# Altium footprint library multimodal.PcbLib: 69 footprints (part 2 of 5)
Each footprint in its own frame and in the unit in brackets; x right, y up, seen from the top. Pads: shape width x height; smd on the part's side, far side on the other; paste and mask are expansions set on the pad; w line width, h text height; cw(c..) or ccw(c..) is an arc to the next point about the centre after c.
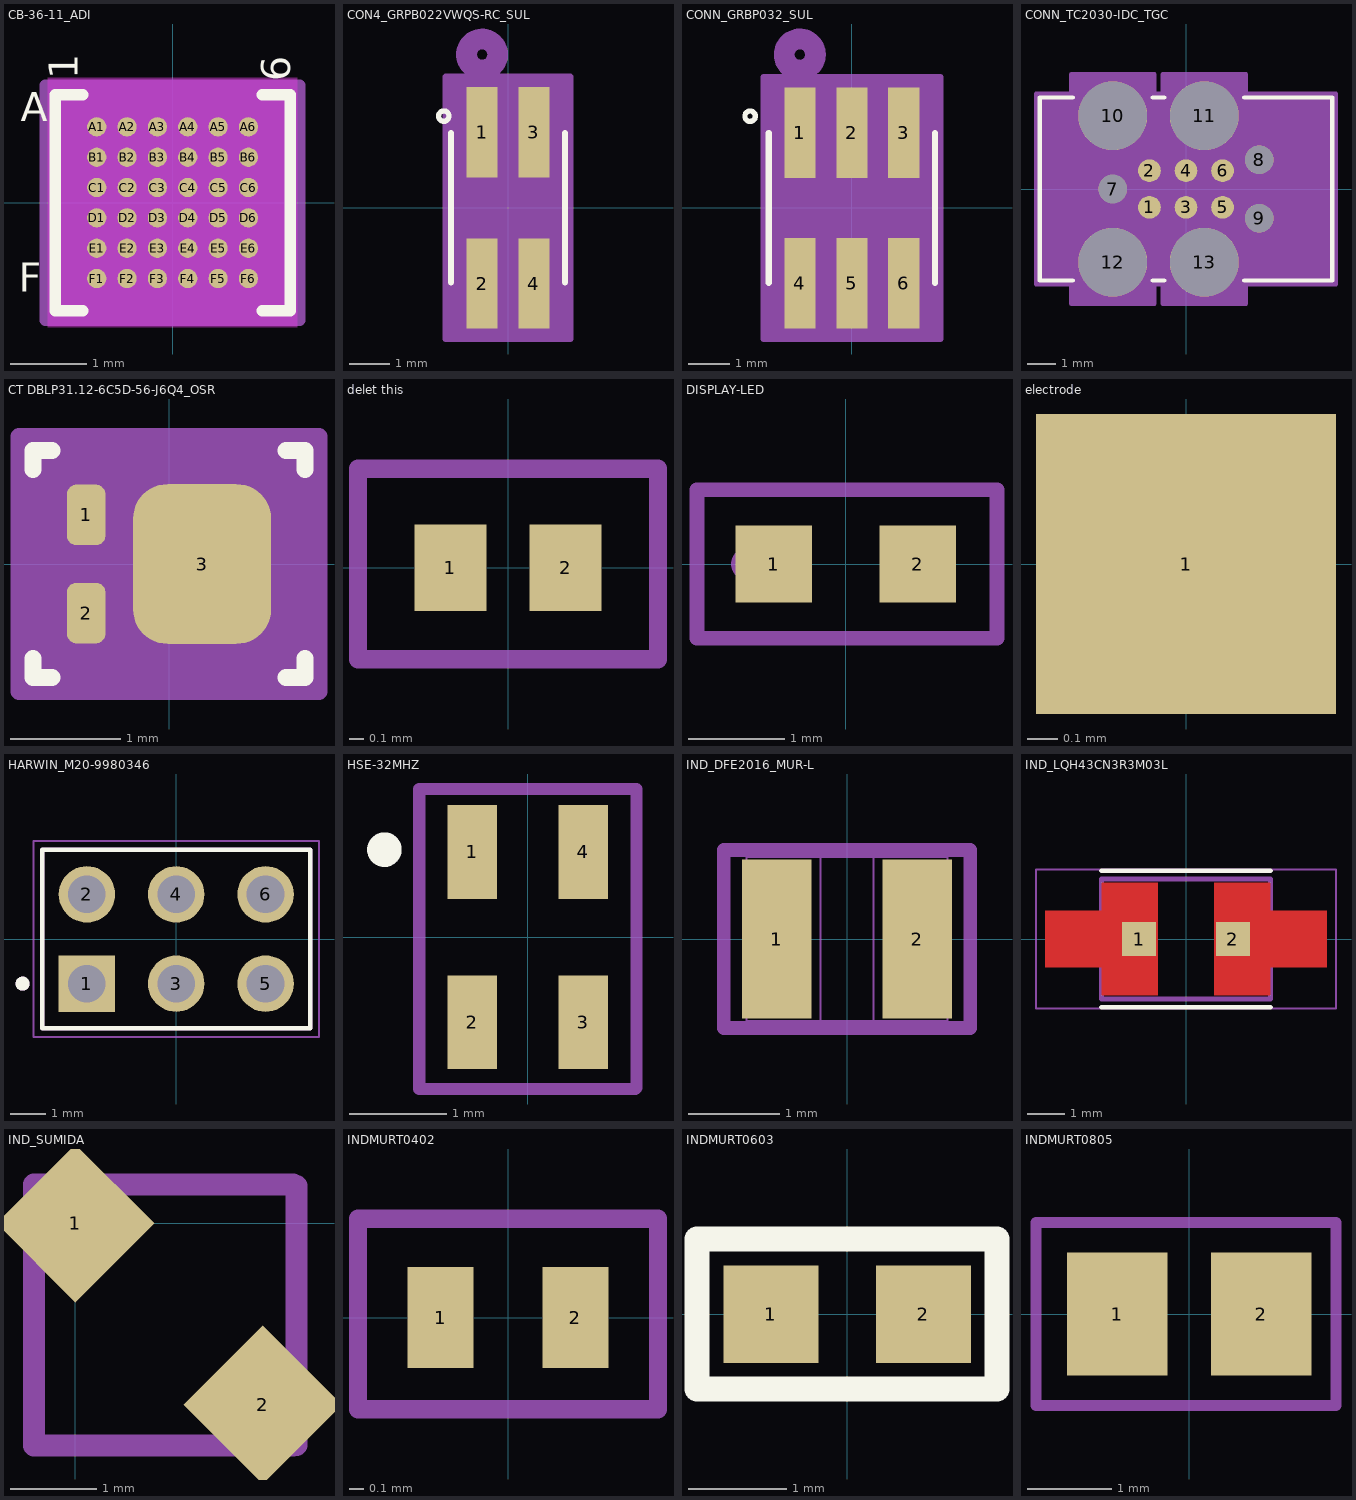
[diagram p1: the footprints below, top view; thin cyan lines are the x and y axes]

## CB-36-11_ADI [mm]
pads (36):
  round 0.254 smd paste+0 mask+0.025: A1(-1,1) A2(-0.6,1) A3(-0.2,1) A4(0.2,1) A5(0.6,1) A6(1,1) B1(-1,0.6) B2(-0.6,0.6) B3(-0.2,0.6) B4(0.2,0.6) B5(0.6,0.6) B6(1,0.6) C1(-1,0.2) C2(-0.6,0.2) C3(-0.2,0.2) C4(0.2,0.2) C5(0.6,0.2) C6(1,0.2) D1(-1,-0.2) D2(-0.6,-0.2) D3(-0.2,-0.2) D4(0.2,-0.2) D5(0.6,-0.2) D6(1,-0.2) E1(-1,-0.6) E2(-0.6,-0.6) E3(-0.2,-0.6) E4(0.2,-0.6) E5(0.6,-0.6) E6(1,-0.6) F1(-1,-1) F2(-0.6,-1) F3(-0.2,-1) F4(0.2,-1) F5(0.6,-1) F6(1,-1)
Top Overlay:
  lines w0.152: -1.181,-1.422 -1.549,-1.422 -1.549,1.422 -1.181,1.422 ; 1.181,-1.422 1.549,-1.422 1.549,1.422 1.181,1.422
  text "A" at -2,1.075 h0.38
  text "F" at -2.025,-1.175 h0.38
  text "1" at -1.25,1.625 h0.38
  text "6" at 1.55,1.6 h0.38
Keep-Out Layer:
  region: -1.645,-1.645 -1.645,1.645 1.645,1.645 1.645,-1.645
Mechanical 13:
  lines w0.025: -1.422,1.095 -1.222,1.295 ; -1.422,-1.295 1.422,-1.295 1.422,1.295 -1.422,1.295 -1.422,-1.295
Mechanical 15:
  region: 1.676,-1.549 -1.676,-1.549 -1.676,1.549 1.676,1.549
  lines w0.152: -1.676,-1.549 -1.676,1.549 1.676,1.549 1.676,-1.549 -1.676,-1.549
3D body "CB-36-11_ADI.step": height 0.59, standoff 0, extent -1.422,-1.295 1.422,1.295

## CON4_GRPB022VWQS-RC_SUL [mil]
pads (4):
  rect 30x87 smd paste+0 mask+0: 1(-25,73) 2(-25,-73) 3(25,73) 4(25,-73)
Top Overlay:
  circle w5: c-62.01,88.58 r5
  lines w6: -55,-72 -55,72 ; 55,-72 55,72
  text ".Designator" at -75,-25 h30
Bottom Overlay:
  circle w5: c-61.02,90.55 r5
Mechanical 13:
  circle w20: c-25,148 r15
  lines w1: -50,-67 -50,67 50,67 50,-67 -50,-67
  text ".Designator" at -85.63,-23.62 h30
Mechanical 15:
  region: 60,126.5 -60,126.5 -60,-126.5 60,-126.5
  lines w6: -60,-126.5 60,-126.5 60,126.5 -60,126.5 -60,-126.5

## CONN_GRBP032_SUL [mil]
pads (6):
  rect 30x87 smd paste+0 mask+0: 1(-50,72.5) 2(0,72.5) 3(50,72.5) 4(-50,-72.5) 5(0,-72.5) 6(50,-72.5)
Top Overlay:
  circle w5: c-97.83,88.25 r5
  circle w5: c-97.83,88.25 r5
  lines w6: -80,-72 -80,72 ; 80,-72 80,72
Mechanical 13:
  circle w20: c-50,147.5 r15
  lines w1: -75,-67 -75,67 75,67 75,-67 -75,-67
  text ".Designator" at -135.83,-27.56 h50
Mechanical 15:
  region: 85,126 -85,126 -85,-126 85,-126
  lines w6: -85,-126 85,-126 85,126 -85,126 -85,-126
3D body "GRPB032VWQS-RC--3DModel-STEP-269445.STEP": height 197, standoff 0, extent -75,-100.39 75,100.61

## CONN_TC2030-IDC_TGC [mil]
pads (13):
  round 31 smd paste-15.5 mask+0: 1(-50,-25) 2(-50,25) 3(0,-25) 4(0,25) 5(50,-25) 6(50,25)
  round 39 hole 39 unplated paste-99999 mask+0: 7(-100,0) 8(100,40) 9(100,-40)
  round 94 hole 94 unplated paste-99999 mask+0: 10(-100,100) 11(25,100) 12(-100,-100) 13(25,-100)
Top Overlay:
  lines w6: -154.65,-125 -200,-125 -200,125 -154.65,125 ; -45.35,-125 -29.65,-125 ; -45.35,125 -29.65,125 ; 79.65,-125 200,-125 200,125 79.65,125
  text ".Designator" at -187.99,-14.76 h50
Mechanical 13:
  circle w20: c-50,-100 r15
  lines w1: -195,-120 195,-120 195,120 -195,120 -195,-120
  text ".Designator" at -191.93,-16.73 h50
Mechanical 15:
  region: -32,-157 82,-157 82,-130 205,-130 205,130 82,130 82,157 -32,157 -32,130 -43,130 -43,157 -157,157 -157,130 -205,130 -205,-130 -157,-130 -157,-157 -43,-157 -43,-130 -32,-130
  lines w6: -205,-130 -205,130 -157,130 -157,157 -43,157 -43,130 -32,130 -32,157 82,157 82,130 205,130 205,-130 82,-130 82,-157 -32,-157 -32,-130 -43,-130 -43,-157 -157,-157 -157,-130 -205,-130

## CT DBLP31.12-6C5D-56-J6Q4_OSR [mm]
pads (3):
  rrect50% 0.35x0.55 smd paste+0 mask+0.05: 1(-0.75,0.445) 2(-0.75,-0.445)
  rrect50% 1.25x1.45 smd paste+0 mask+0.05: 3(0.3,0)
Top Overlay:
  lines w0.152: -1.232,-0.857 -1.232,-1.029 -1.061,-1.029 ; -1.232,0.857 -1.232,1.029 -1.061,1.029 ; 1.061,-1.029 1.232,-1.029 1.232,-0.857 ; 1.061,1.029 1.232,1.029 1.232,0.857
  text ".Designator" at -3.492,-0.635 h1.27
Mechanical 13:
  lines w0.025: -1.105,-0.902 1.105,-0.902 1.105,0.902 -1.105,0.902 -1.105,-0.902
  text ".Designator" at -3.492,-0.635 h1.27
Mechanical 15:
  region: -1.359,-0.978 -1.359,0.978 -1.359,1.156 1.359,1.156 1.359,0.978 1.359,-0.978 1.359,-1.156 -1.359,-1.156
  lines w0.152: -1.359,-1.156 -1.359,-0.978 -1.359,0.978 -1.359,1.156 1.359,1.156 1.359,0.978 1.359,-0.978 1.359,-1.156 -1.359,-1.156
3D body "CTDBLP3112-6C5D-56-J6Q4_OSR.step": height 0.62, standoff 0, extent -1.105,-0.902 1.105,0.902

## delet this [mm]
pads (2):
  rect 0.5x0.6 smd mask+0.05: 1(-0.4,0) 2(0.4,0)
Mechanical 13:
  lines w0.127: -1.041,-0.635 1.041,-0.635 1.041,0.686 -1.041,0.686 -1.041,-0.635
  text ".Designator" at -1.275,0.438 h1.27

## DISPLAY-LED [mm]
pads (2):
  rect 0.8x0.8 smd: 1(-0.75,0) 2(0.75,0)
Mechanical 13:
  circle w0.254: c-1.016,0 r0.051
  lines w0.152: -1.549,-0.775 -1.549,0.775 1.575,0.775 1.575,-0.775 -1.549,-0.775
  text ".Designator" at -0.762,-0.143 h1.27
3D body "LTST-C191KRKT.STEP": height 0.55, standoff 0, extent -0.8,-0.4 0.8,0.4

## electrode [mm]
pads (1):
  rect 1x1 smd paste+0 mask+0.1: 1(0,0)
Mechanical 13:
  text ".Designator" at -2,0.238 h1.27

## HARWIN_M20-9980346 [mm]
pads (6):
  rect 1.605x1.605 / inner round 1.605 / far side rect 1.605x1.605 hole 1.07: 1(-2.54,-1.27)
  round 1.605 hole 1.07: 2(-2.54,1.27) 3(0,-1.27) 4(0,1.27) 5(2.54,-1.27) 6(2.54,1.27)
Top Overlay:
  circle w0.2: c-4.37,-1.27 r0.1
  lines w0.127: -3.81,-2.54 -3.81,2.54 3.81,2.54 3.81,-2.54 -3.81,-2.54
Mechanical 13:
  circle w0.2: c-4.37,-1.27 r0.1
  lines w0.127: -3.81,-2.54 -3.81,2.54 3.81,2.54 3.81,-2.54 -3.81,-2.54
Mechanical 15:
  lines w0.05: -4.06,-2.79 4.06,-2.79 4.06,2.79 -4.06,2.79 -4.06,-2.79

## HSE-32MHZ [mil]
pads (4):
  rect 20x38 smd paste+0 mask+0: 1(-22.5,34.5) 2(-22.5,-34.5) 3(22.5,-34.5) 4(22.5,34.5)
Top Overlay:
  circle w10: c-58.07,35.43 r2
Mechanical 13:
  circle w10: c-23,36 r2
  lines w5: -44,-61.5 -44,60 -30,60 -9,60 44,60 44,-61 43.5,-61.5 34.5,-61.5 -32.5,-61.5 -44,-61.5
  text ".Designator" at -38,-6.56 h45
3D body "NX2016SA_NDK.step": height 20.12, standoff 0, extent -33.5,-41.5 33.5,41.5

## IND_DFE2016_MUR-L [mil]
pads (2):
  rect 30x69.03 smd paste+0 mask+0: 1(-30.45,0) 2(30.45,0)
Top Overlay:
  text ".Designator" at -13.78,-94.49 h30
Mechanical 13:
  circle w0: c-25.45,0 r3
  lines w1: -43.5,-35.5 -43.5,35.5 ; -43.5,-35.5 43.5,-35.5 ; -43.5,-35.5 -11.5,-35.5 -11.5,35.5 -43.5,35.5 ; -43.5,-35.5 -43.5,35.5 ; -43.5,35.5 43.5,35.5 ; 43.5,-35.5 43.5,35.5 ; 43.5,-35.5 43.5,35.5 ; 43.5,-35.5 11.5,-35.5 11.5,35.5 43.5,35.5
  text ".Designator" at -13.78,-94.49 h30
Mechanical 15:
  lines w6: -53.41,-38.52 -53.41,38.52 53.41,38.52 53.41,-38.52 -53.41,-38.52
3D body "DFE201612E-2R2M=P2.STEP": height 31.5, standoff -31.5, extent -39.37,-23.62 39.37,23.62

## IND_LQH43CN3R3M03L [mm]
pads (2):
  rect 0.9x0.9 smd paste-1 mask+0: 1(-1.25,0) 2(1.25,0)
Top Layer:
  region: 2.25,0.75 3.75,0.75 3.75,-0.75 2.25,-0.75 2.25,-1.5 0.75,-1.5 0.75,1.5 2.25,1.5
  region: -0.75,-1.5 -2.25,-1.5 -2.25,-0.75 -3.75,-0.75 -3.75,0.75 -2.25,0.75 -2.25,1.5 -0.75,1.5
Top Overlay:
  lines w0.127: -2.25,-1.82 2.25,-1.82 ; -2.25,1.82 2.25,1.82
Top Paste:
  region: 2.25,0.75 3.75,0.75 3.75,-0.75 2.25,-0.75 2.25,-1.5 0.75,-1.5 0.75,1.5 2.25,1.5
  region: -0.75,-1.5 -2.25,-1.5 -2.25,-0.75 -3.75,-0.75 -3.75,0.75 -2.25,0.75 -2.25,1.5 -0.75,1.5
Top Solder:
  region: 2.35,0.85 3.85,0.85 3.85,-0.85 2.35,-0.85 2.35,-1.6 0.65,-1.6 0.65,1.6 2.35,1.6
  region: -0.65,-1.6 -2.35,-1.6 -2.35,-0.85 -3.85,-0.85 -3.85,0.85 -2.35,0.85 -2.35,1.6 -0.65,1.6
Mechanical 13:
  lines w0.127: -2.25,-1.6 -2.25,1.6 2.25,1.6 2.25,-1.6 -2.25,-1.6
Mechanical 15:
  lines w0.05: -4,-1.85 -4,1.85 4,1.85 4,-1.85 -4,-1.85

## IND_SUMIDA [mm]
pads (2):
  rect 1.3x1.3 smd rot 45 mask+0.05: 1(0,0) 2(2.175,-2.1)
Mechanical 1:
  lines w0.254: -0.475,0.425 -0.475,-2.575 2.525,-2.575 ; -0.475,0.45 2.525,0.45 ; 2.566,-2.565 2.566,0.435
Mechanical 13:
  text ".Designator" at -1.45,-1.312 h1.27

## INDMURT0402 [mm]
pads (2):
  rect 0.46x0.7 smd: 1(-0.468,0) 2(0.468,0)
Mechanical 13:
  lines w0.127: -1.041,-0.635 -1.041,0.686 1.041,0.686 1.041,-0.635 -1.041,-0.635
  text ".Designator" at -0.813,-0.143 h1.27
3D body "LQG15WZ10NJ02D.STEP": height 0.6, standoff 0, extent -0.492,-0.3 0.508,0.3

## INDMURT0603 [mil]
pads (2):
  rect 38x39 smd paste+0: 1(-30.5,0) 2(30.5,0)
Top Overlay:
  lines w10: -60,-30 60,-30 60,30 -60,30 -60,-30
Mechanical 13:
  lines w6: -59.5,-29.5 59.5,-29.5 59.5,29.5 -59.5,29.5 -59.5,-29.5
  text ".Designator" at -34,-5.62 h50
3D body "IND_LQM18PN_GH_MUR.step": height 39.02, standoff 0, extent -35.51,-19.49 35.51,19.49

## INDMURT0805 [mm]
pads (2):
  rect 1.2x1.47 smd: 1(-0.86,0) 2(0.86,0)
Mechanical 13:
  lines w0.127: -1.829,-1.092 -1.829,1.092 1.753,1.092 1.753,-1.092 -1.829,-1.092
  text ".Designator" at -0.762,-0.168 h1.27
3D body "LQM21PNR47MEHD.STEP": height 0.8, standoff 0, extent -1,-0.625 1,0.625